# EAGLE library part TS72116TP-10 (library TS72116TP-10)
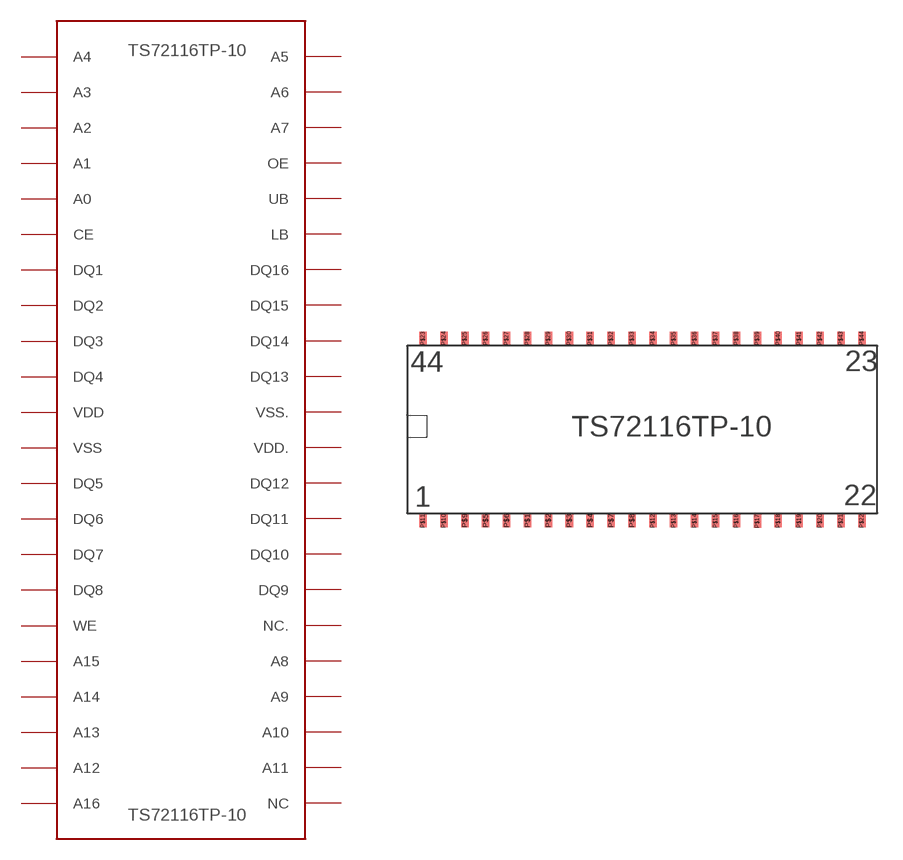
[diagram p0: symbol with the pads of TS72116TP-10; footprint TS72116TP-10]

Designator prefix -

## TS72116TP-10  [TS72116TP-10]
P$1  A4
P$2  A3
P$3  A2
P$4  A1
P$5  A0
P$6  CE
P$7  DQ1
P$8  DQ2
P$9  DQ3
P$10  DQ4
P$11  VDD
P$12  VSS
P$13  DQ5
P$14  DQ6
P$15  DQ7
P$16  DQ8
P$17  WE
P$18  A15
P$19  A14
P$20  A13
P$21  A12
P$22  A16
P$23  NC
P$24  A11
P$25  A10
P$26  A9
P$27  A8
P$28  NC.
P$29  DQ9
P$30  DQ10
P$31  DQ11
P$32  DQ12
P$33  VDD.
P$34  VSS.
P$35  DQ13
P$36  DQ14
P$37  DQ15
P$38  DQ16
P$39  LB
P$40  UB
P$41  OE
P$42  A7
P$43  A6
P$44  A5

## Footprint TS72116TP-10 (pad centres in mm)
smd 0.457 x 0.8: P$1 7.31,-0.47; P$2 8.58,-0.47; P$3 9.85,-0.47; P$4 11.12,-0.47; P$5 4.77,-0.47; P$6 6.04,-0.47; P$7 12.39,-0.47; P$8 13.66,-0.47; P$9 3.5,-0.47; P$10 2.23,-0.47; P$11 0.96,-0.47; P$12 14.93,-0.47; P$13 16.2,-0.47; P$14 17.47,-0.47; P$15 18.74,-0.47; P$16 20.01,-0.47; P$17 21.28,-0.48; P$18 22.55,-0.47; P$19 23.82,-0.47; P$20 25.09,-0.47; P$21 26.36,-0.47; P$22 27.63,-0.47; P$23 0.96,10.63; P$24 2.23,10.63; P$25 3.5,10.63; P$26 4.77,10.63; P$27 6.04,10.63; P$28 7.31,10.63; P$29 8.58,10.63; P$30 9.85,10.63; P$31 11.12,10.63; P$32 12.39,10.63; P$33 13.66,10.63; P$34 14.93,10.63; P$35 16.2,10.63; P$36 17.47,10.63; P$37 18.74,10.63; P$38 20.01,10.63; P$39 21.28,10.63; P$40 22.55,10.63; P$41 23.82,10.63; P$42 25.09,10.63; P$43 26.36,10.63; P$44 27.63,10.63